# Altium footprint library Footprints.PcbLib: 1 footprints
Each footprint in its own frame and in the unit in brackets; x right, y up, seen from the top. Pads: shape width x height; smd on the part's side, far side on the other; paste and mask are expansions set on the pad; w line width, h text height; cw(c..) or ccw(c..) is an arc to the next point about the centre after c.
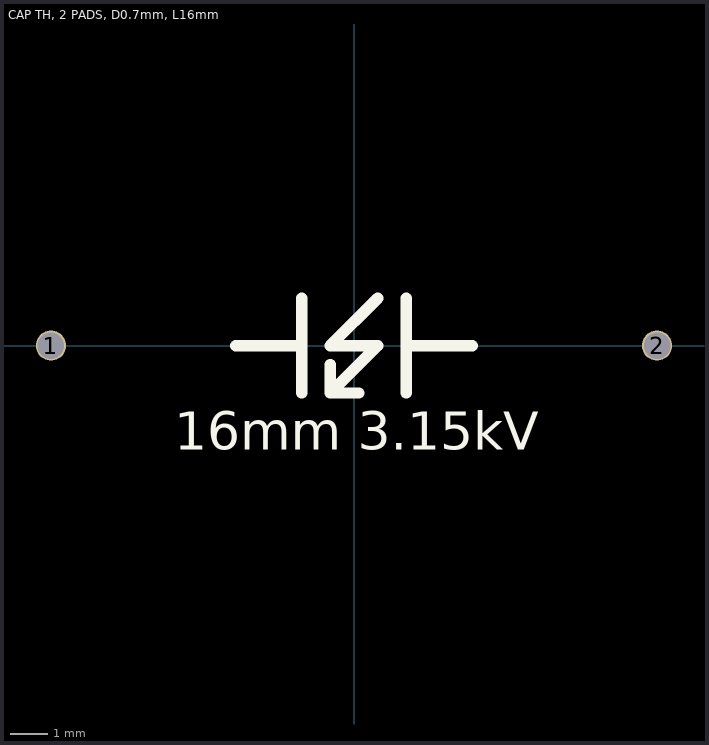
[diagram p0: the footprint, top view; thin cyan lines are the x and y axes]

## CAP TH, 2 PADS, D0.7mm, L16mm [mm] "High-voltage capacitor footprint, pad distance rated for 3.15kV"
height 15
pads (2):
  round 0.8 hole 0.7: 1(-8,0) 2(8,0)
Top Overlay:
  lines w0.3: -3.125,0 -1.375,0 ; -1.375,-1.25 -1.375,1.25 ; -0.625,-0.5 -0.625,-1.25 ; 0.125,-1.25 -0.625,-1.25 ; 0.625,1.25 -0.625,0 0.625,0 -0.625,-1.25 ; 1.375,-1.25 1.375,1.25 ; 1.375,0 3.125,0
  text "16mm 3.15kV" at -4.75,-2.75 h1